# Altium integrated library DC-DC_Regulator.IntLib: 3 symbols
Pins are listed as number, name and electrical type; pins without a type are passive.

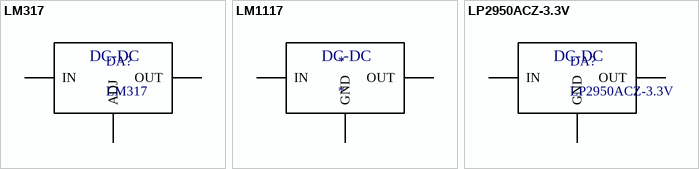
[diagram p0: symbols LM317 to LP2950ACZ-3.3V]

## LM317
designator DA?
pins: 1 ADJ, 2 OUT, 3 IN
text: DC-DC

## LM1117
designator *
footprint SOT230P700X180-4N (SOT223, 4-Leads, Body 6,50x7,00mm (avg), Pitch 2,30mm, IPC Medium Density)
pins: 1 GND, 2 OUT, 3 IN
text: DC-DC

## LP2950ACZ-3.3V
designator DA?
footprint TO-92
pins: 1 OUT, 2 GND, 3 IN
text: DC-DC